# Altium footprint library LED0603 - KINGBRIGHT.PcbLib: 1 footprints
Each footprint in its own frame and in the unit in brackets; x right, y up, seen from the top. Pads: shape width x height; smd on the part's side, far side on the other; paste and mask are expansions set on the pad; w line width, h text height; cw(c..) or ccw(c..) is an arc to the next point about the centre after c.
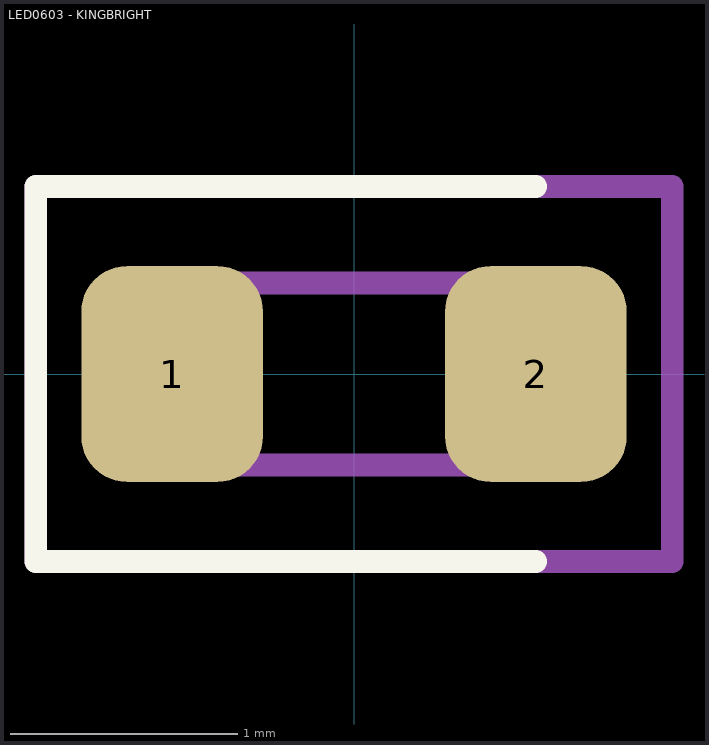
[diagram p0: the footprint, top view; thin cyan lines are the x and y axes]

## LED0603 - KINGBRIGHT [mm]
pads (2):
  rrect50% 0.8x0.95 smd: 1(-0.8,0) 2(0.8,0)
Top Overlay:
  lines w0.1: 0.8,-0.825 -1.4,-0.825 -1.4,0.825 0.8,0.825
Mechanical 13:
  lines w0.1: -0.8,0.133 -0.533,0.4 ; -0.8,-0.4 0.8,-0.4 0.8,0.4 -0.8,0.4 -0.8,-0.4
Mechanical 15:
  lines w0.1: -1.4,-0.825 1.4,-0.825 1.4,0.825 -1.4,0.825 -1.4,-0.825
Top Designator:
  text ".Designator" at -1.004,-0.087 h0.25
3D body "APT1608SURCK.stp": height 0.75, standoff 0, extent -0.84,-0.4 0.771,0.4